# Altium schematic symbol library MQ-9.SchLib: 1 symbol
Pins are listed as number, name and electrical type; pins without a type are passive.

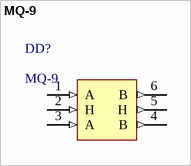
[diagram p0: symbol MQ-9]

## MQ-9
designator DD?
pins: 1 A (in), 2 H (in), 3 A (in), 4 B (out), 5 H (out), 6 B (out)